# Altium schematic symbol library LY.SchLib: 35 symbols
Pins are listed as number, name and electrical type; pins without a type are passive.

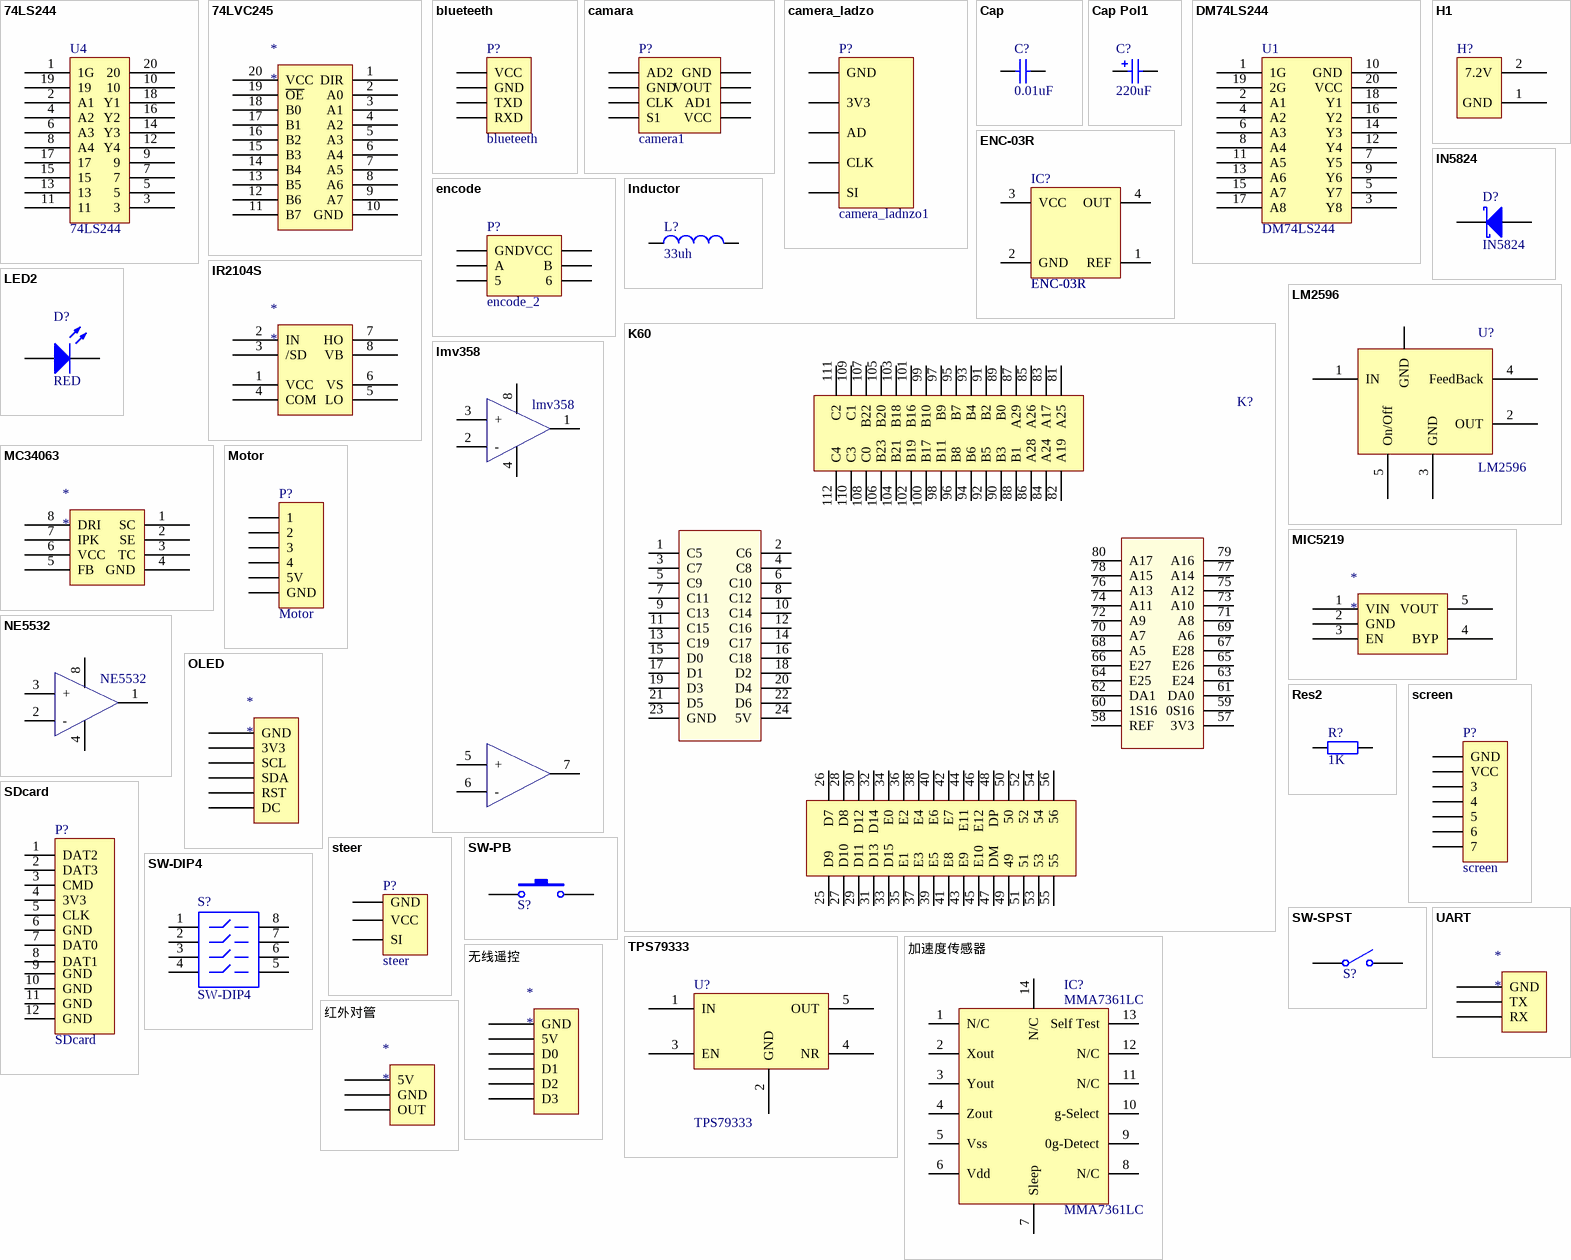
[diagram p0: symbols 74LS244 to 红外对管]

## 74LS244
designator U4
pins: 1 1G, 2 A1, 3, 4 A2, 5, 6 A3, 7, 8 A4, 9, 10, 11, 12 Y4, 13, 14 Y3, 15, 16 Y2, 17, 18 Y1, 19, 20

## 74LVC245
designator *
pins: 1 DIR, 2 A0, 3 A1, 4 A2, 5 A3, 6 A4, 7 A5, 8 A6, 9 A7, 10 GND, 11 B7, 12 B6, 13 B5, 14 B4, 15 B3, 16 B2, 17 B1, 18 B0, 19 ~{OE}, 20 VCC

## blueteeth
designator P?
footprint HDR1X4
pins: 1 VCC, 2 GND, 3 TXD, 4 RXD

## camara
designator P?, comment camera1
footprint HDR2X4
pins: 1 GND, 2 AD2, 3 VOUT, 4 GND, 5 AD1, 6 CLK, 7 VCC, 8 S1

## camera_ladzo
designator P?, comment camera_ladnzo1
footprint camera_landzo
pins: 1 GND, 2 3V3, 3 AD, 4 CLK, 5 SI

## Cap
designator C?  value 0.01uF  (hidden comment: Cap)
Capacitor; Published: 8-Jun-2000; LatestRevisionDate: 17-Jul-2002; LatestRevisionNote: Re-released for DXP Platform.; PackageReference: RAD-0.3; Publisher: Altium Limited; PackageDescription: Radial Cap, Thru-Hole; 2 Leads; 0.3 in Pin Spacing
simulation model CAP (Capacitor)
signal-integrity model Cap
footprint 0603
pins: 1, 2

## Cap Pol1
designator C?  value 220uF  (hidden comment: Cap Pol1)
Polarized Capacitor (Radial); Published: 8-Jun-2000; LatestRevisionDate: 17-Jul-2002; LatestRevisionNote: Re-released for DXP Platform.; PackageReference: RB7.6-15; Publisher: Altium Limited; PackageDescription: Polarized Capacitor (Radial); 2 Leads
simulation model CAP (Capacitor)
signal-integrity model Cap Pol
footprint 电解电容大
pins: 1, 2
1 alternate drawing of the same symbol

## DM74LS244
designator U1
footprint DM74LS244 (SOIC, 20-Leads, Body 12.80x7.49mm, Pitch 1.27mm, Thermal Pad 0.00.2x0.00.2mm, IPC Medium Density)
pins: 1 1G, 2 A1, 3 Y8, 4 A2, 5 Y7, 6 A3, 7 Y5, 8 A4, 9 Y6, 10 GND, 11 A5, 12 Y4, 13 A6, 14 Y3, 15 A7, 16 Y2, 17 A8, 18 Y1, 19 2G, 20 VCC

## ENC-03R
designator IC?
footprint ENC-03MB (陀螺仪)
pins: 1 REF, 2 GND, 3 VCC, 4 OUT

## encode
designator P?, comment encode_2
footprint HDR2X3
pins: 1 GND, 2 VCC, 3 A, 4 B, 5, 6

## H1
designator H?  (value not drawn)
footprint power
pins: 1 GND, 2 7.2V

## IN5824
designator D?
footprint 1N5824
pins: 1 A, 2 K

## Inductor
designator L?  value 33uh  (hidden comment: Inductor)
Code_IEC: 1005; Published: 8-Jun-2000; LatestRevisionDate: 29-May-2009; LatestRevisionNote: IPC-7351 Footprint Added.; PackageReference: 0402-A; Publisher: Altium Limited; PackageDescription: Chip Inductor; Code_JEITA: 0402
simulation model INDUCTOR (Inductor)
signal-integrity model Inductor
footprint 电感(小)
pins: 1, 2

## IR2104S
designator *
pins: 1 VCC, 2 IN, 3 /SD, 4 COM, 5 LO, 6 VS, 7 HO, 8 VB

## K60
designator K?  (value not drawn)
footprint k60
pins: 1 C5, 2 C6, 3 C7, 4 C8, 5 C9, 6 C10, 7 C11, 8 C12, 9 C13, 10 C14, 11 C15, 12 C16, 13 C19, 14 C17, 15 D0, 16 C18, 17 D1, 18 D2, 19 D3, 20 D4, 21 D5, 22 D6, 23 GND, 24 5V, 25 D9, 26 D7, 27 D10, 28 D8, 29 D11, 30 D12, 31 D13, 32 D14, 33 D15, 34 E0, 35 E1, 36 E2, 37 E3, 38 E4, 39 E5, 40 E6, 41 E8, 42 E7, 43 E9, 44 E11, 45 E10, 46 E12, 47 DM, 48 DP, 49, 50, 51, 52, 53, 54, 55, 56, 57 3V3, 58 REF, 59 0S16, 60 1S16, 61 DA0, 62 DA1, 63 E24, 64 E25, 65 E26, 66 E27, 67 E28, 68 A5, 69 A6, 70 A7, 71 A8, 72 A9, 73 A10, 74 A11, 75 A12, 76 A13, 77 A14, 78 A15, 79 A16, 80 A17, 81 A25, 82 A19, 83 A17, 84 A24, 85 A26, 86 A28, 87 A29, 88 B1, 89 B0, 90 B3, 91 B2, 92 B5, 93 B4, 94 B6, 95 B7, 96 B8, 97 B9, 98 B11, 99 B10, 100 B17, 101 B16, 102 B19, 103 B18, 104 B21, 105 B20, 106 B23, 107 B22, 108 C0, 109 C1, 110 C3, 111 C2, 112 C4

## LED2
designator D?, comment RED
Typical RED, GREEN, YELLOW, AMBER GaAs LED; Published: 8-Jun-2000; LatestRevisionDate: 17-Jul-2002; LatestRevisionNote: Re-released for DXP Platform.; PackageVersion: Feb-2002; PackageReference: 3.2X1.6X1.1; Publisher: Altium Limited; PackageDescription: SM LED; 2 Flat Leads
simulation model LED2 (Diode)
footprint 0805LED
pins: 1 A, 2 K

## LM2596
designator U?
footprint LM2596 (D2-PAK, 6-Pads, Body 7.55x8.56mm (max), IPC Medium Density)
pins: 1 IN, 2 OUT, 3 GND, 4 FeedBack, 5 On/Off, 6 GND

## lmv358
designator *?
footprint LM358 (SOIC, 8-Leads, Body 5.0x4.0mm (max), Pitch 1.27mm, IPC Medium Density放大器)
footprint LM358 (SOIC, 8-Leads, Body 5.0x4.0mm (max), Pitch 1.27mm, IPC Medium Density放大器)
pins: 1, 2 -, 3 +, 4 GND, 5 +, 6 -, 7, 8 VDD

## MC34063
designator *
pins: 1 SC, 2 SE, 3 TC, 4 GND, 5 FB, 6 VCC, 7 IPK, 8 DRI

## MIC5219
designator *
pins: 1 VIN, 2 GND, 3 EN, 4 BYP, 5 VOUT

## Motor
designator P?
footprint HDR1X6
pins: 1, 2, 3, 4, 5 5V, 6 GND

## NE5532
designator *?
footprint LM358 (SOIC, 8-Leads, Body 5.0x4.0mm (max), Pitch 1.27mm, IPC Medium Density放大器)
footprint LM358 (SOIC, 8-Leads, Body 5.0x4.0mm (max), Pitch 1.27mm, IPC Medium Density放大器)
pins: 1, 2 -, 3 +, 4 GND, 8 VDD

## OLED
designator *
pins: 1 GND, 2 3V3, 3 SCL, 4 SDA, 5 RST, 6 DC

## Res2
designator R?  value 1K  (hidden comment: Res2)
Resistor; Published: 8-Jun-2000; LatestRevisionDate: 17-Jul-2002; LatestRevisionNote: Re-released for DXP Platform.; PackageReference: AXIAL-0.4; Publisher: Altium Limited; PackageDescription: Axial Device, Thru-Hole; 2 Leads; 0.4 in Pin Spacing
simulation model RESISTOR (Resistor)
signal-integrity model Res
footprint 0603
pins: 1, 2

## screen
designator P?
footprint HDR1X7
pins: 1 GND, 2 VCC, 3, 4, 5, 6, 7

## SDcard
designator P?
footprint TF_card
pins: 1 DAT2, 2 DAT3, 3 CMD, 4 3V3, 5 CLK, 6 GND, 7 DAT0, 8 DAT1, 9 GND, 10 GND, 11 GND, 12 GND

## steer
designator P?
footprint HDR1X3
pins: 1 GND, 2 VCC, 3 SI

## SW-DIP4
designator S?
DIP Switch; Published: 24-Mar-1999; LatestRevisionDate: 17-Jul-2002; LatestRevisionNote: Re-released for DXP Platform.; PackageReference: DIP-8; Publisher: Altium Limited
footprint DIP-8
simulation model dpsw4 (Spice Subcircuit)
pins: 1, 2, 3, 4, 5, 6, 7, 8

## SW-PB
designator S?  (value not drawn)
Switch; Published: 24-Mar-1999; LatestRevisionDate: 17-Jul-2002; LatestRevisionNote: Re-released for DXP Platform.; PackageReference: SPST-2; Publisher: Altium Limited; PackageDescription: Switch; 2 Leads
footprint BUTTON
pins: 1, 2

## SW-SPST
designator S?  (value not drawn)
Single-Pole, Single-Throw Switch; Published: 24-Mar-1999; LatestRevisionDate: 17-Jul-2002; LatestRevisionNote: Re-released for DXP Platform.; PackageReference: SPST-2; Publisher: Altium Limited; PackageDescription: Switch; 2 Leads
footprint swich
pins: 1 COMMON, 2 NO

## TPS79333
designator U?
footprint TPS79333 (SOT23, 5-Leads, Body 2.90x2.90mm, Pitch 0.95mm, IPC Medium Density)
footprint TPS79333 (SOT23, 5-Leads, Body 2.90x2.90mm, Pitch 0.95mm, IPC Medium Density)
footprint TPS79333s (SOT23, 5-Leads, Body 2.90x2.90mm, Pitch 0.95mm, IPC Medium Density)
pins: 1 IN, 2 GND, 3 EN, 4 NR, 5 OUT

## UART
designator *
pins: 1 GND, 2 TX, 3 RX

## 加速度传感器
designator IC?, comment MMA7361LC
footprint MMA7361LC (加速度计)
pins: 1 N/C, 2 Xout, 3 Yout, 4 Zout, 5 Vss, 6 Vdd, 7 Sleep, 8 N/C, 9 0g-Detect, 10 g-Select, 11 N/C, 12 N/C, 13 Self Test, 14 N/C

## 无线遥控
designator *
pins: 1 GND, 2 5V, 3 D0, 4 D1, 5 D2, 6 D3

## 红外对管
designator *
pins: 1 5V, 2 GND, 3 OUT